# Altium schematic symbol library 2019-11-24_21-52-03.SchLib: 2 symbols
Pins are listed as number, name and electrical type; pins without a type are passive.

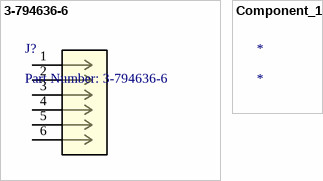
[diagram p0: symbols 3-794636-6 to Component_1]

## 3-794636-6
designator J?, comment Part Number: 3-794636-6
No Description Available; Vendor: TE Connectivity; Built_By: EMA_UL_Team; Manufacturer_Part_Number: 3-794636-6; Copyright: Copyright (C) 2018 Accelerated Designs. All rights reserved; RefDes: RefDes; Type: DEV; Value: Value
footprint CON6_2X3_P3MM_VM
pins: 1, 2, 3, 4, 5, 6

## Component_1
designator *